# EAGLE library part NUCLEO-L432KC (library NUCLEO-L432KC)
Check availability <https://pricing.snapeda.com/parts/NUCLEO-L432KC/STMicroelectronics/view-part?ref=eda>
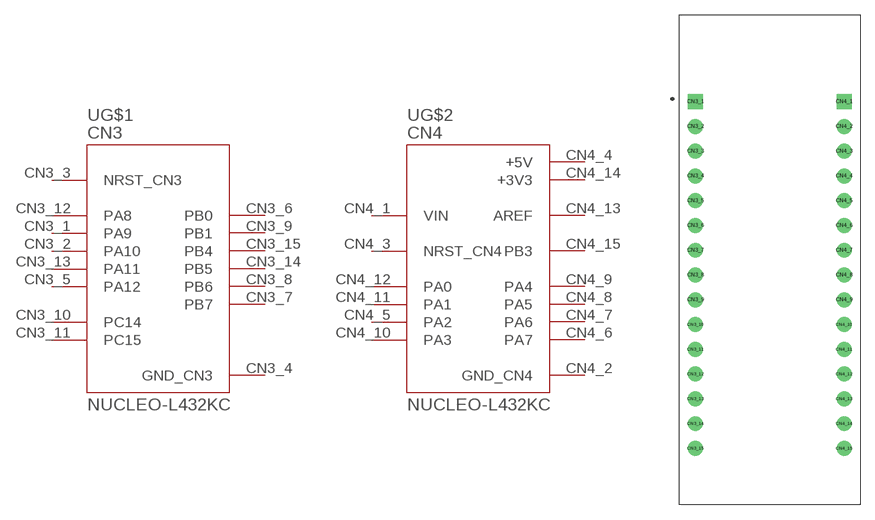
[diagram p0: symbol with the pads of MODULE_NUCLEO-L432KC; footprint MODULE_NUCLEO-L432KC]

Designator prefix U; gates G$1=NUCLEO-L432KC_CN3 G$2=NUCLEO-L432KC_CN4

## NUCLEO-L432KC (AVAILABILITY: In Stock; CHECK_PRICES: https://www.snapeda.com/parts/NUCLEO-L432KC/STMicroelectronics/view-part/?ref=eda; DESCRIPTION: STM32L432KC, mbed-Enabled Development Nucleo-32 STM32L4 ARM® Cortex®-M4 MCU 32-Bit Embedded Evaluation Board; MF: STMicroelectronics; MP: NUCLEO-L432KC; PACKAGE: None; PRICE: None; SNAPEDA_LINK: https://www.snapeda.com/parts/NUCLEO-L432KC/STMicroelectronics/view-part/?ref=snap)  [MODULE_NUCLEO-L432KC]
CN3_1  G$1:PA9
CN3_2  G$1:PA10
CN3_3  G$1:NRST_CN3
CN3_4  G$1:GND_CN3  pwr
CN3_5  G$1:PA12
CN3_6  G$1:PB0
CN3_7  G$1:PB7
CN3_8  G$1:PB6
CN3_9  G$1:PB1
CN3_10  G$1:PC14
CN3_11  G$1:PC15
CN3_12  G$1:PA8
CN3_13  G$1:PA11
CN3_14  G$1:PB5
CN3_15  G$1:PB4
CN4_1  G$2:VIN  in
CN4_2  G$2:GND_CN4  pwr
CN4_3  G$2:NRST_CN4
CN4_4  G$2:+5V  pwr
CN4_5  G$2:PA2
CN4_6  G$2:PA7
CN4_7  G$2:PA6
CN4_8  G$2:PA5
CN4_9  G$2:PA4
CN4_10  G$2:PA3
CN4_11  G$2:PA1
CN4_12  G$2:PA0
CN4_13  G$2:AREF
CN4_14  G$2:+3V3  pwr
CN4_15  G$2:PB3

## Footprint MODULE_NUCLEO-L432KC (pad centres in mm)
drill 1.02 square: CN3_1 -7.62,16.215; CN4_1 7.62,16.215
drill 1.02: CN3_2 -7.62,13.675; CN3_3 -7.62,11.135; CN3_4 -7.62,8.595; CN3_5 -7.62,6.055; CN3_6 -7.62,3.515; CN3_7 -7.62,0.975; CN3_8 -7.62,-1.565; CN3_9 -7.62,-4.105; CN3_10 -7.62,-6.645; CN3_11 -7.62,-9.185; CN3_12 -7.62,-11.725; CN3_13 -7.62,-14.265; CN3_14 -7.62,-16.805; CN3_15 -7.62,-19.345; CN4_2 7.62,13.675; CN4_3 7.62,11.135; CN4_4 7.62,8.595; CN4_5 7.62,6.055; CN4_6 7.62,3.515; CN4_7 7.62,0.975; CN4_8 7.62,-1.565; CN4_9 7.62,-4.105; CN4_10 7.62,-6.645; CN4_11 7.62,-9.185; CN4_12 7.62,-11.725; CN4_13 7.62,-14.265; CN4_14 7.62,-16.805; CN4_15 7.62,-19.345